# Altium footprint library GX-8.PcbLib: 1 footprints
Each footprint in its own frame and in the unit in brackets; x right, y up, seen from the top. Pads: shape width x height; smd on the part's side, far side on the other; paste and mask are expansions set on the pad; w line width, h text height; cw(c..) or ccw(c..) is an arc to the next point about the centre after c.
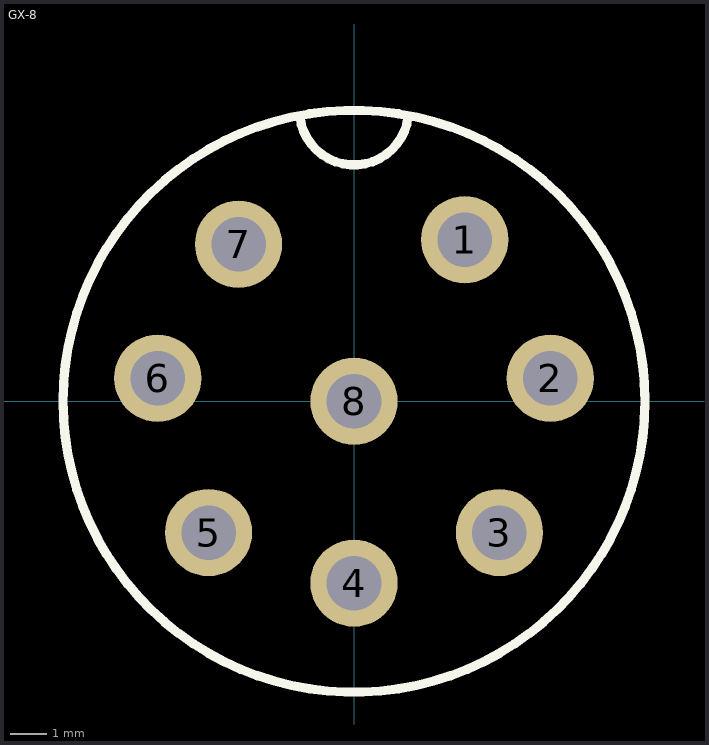
[diagram p0: the footprint, top view; thin cyan lines are the x and y axes]

## GX-8 [mm] "8 Position Circular Connector Receptacle, Male Pins Solder"
pads (8):
  round 2.4 hole 1.5: 1(3.048,4.445) 2(5.4,0.635) 3(4,-3.61) 4(0,-5) 5(-4,-3.61) 6(-5.4,0.635) 7(-3.175,4.318) 8(0,0)
Top Overlay:
  circle w0.254: c0,0 r8
  lines w0.254: -1.488,7.814 ccw(c0,8) 1.488,7.814